# Altium schematic symbol library con2.SchLib: 1 symbol
Pins are listed as number, name and electrical type; pins without a type are passive.

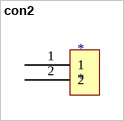
[diagram p0: symbol con2]

## con2
designator *
pins: 1, 2